# Altium schematic symbol library Single_Pad_Sch.SchLib: 3 symbols
Pins are listed as number, name and electrical type; pins without a type are passive.

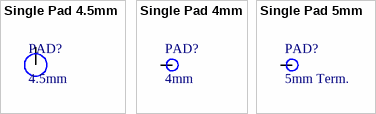
[diagram p0: symbols Single Pad 4.5mm to Single Pad 5mm]

## Single Pad 4.5mm
designator PAD?, comment 4.5mm
footprint Single Pad 4.5mm
pins: 1

## Single Pad 4mm
designator PAD?, comment 4mm
footprint PCBComponent_1
pins: 1

## Single Pad 5mm
designator PAD?, comment 5mm Term.
pins: 1